# Altium footprint library Connector.PcbLib: 97 footprints (part 6 of 7)
Each footprint in its own frame and in the unit in brackets; x right, y up, seen from the top. Pads: shape width x height; smd on the part's side, far side on the other; paste and mask are expansions set on the pad; w line width, h text height; cw(c..) or ccw(c..) is an arc to the next point about the centre after c.
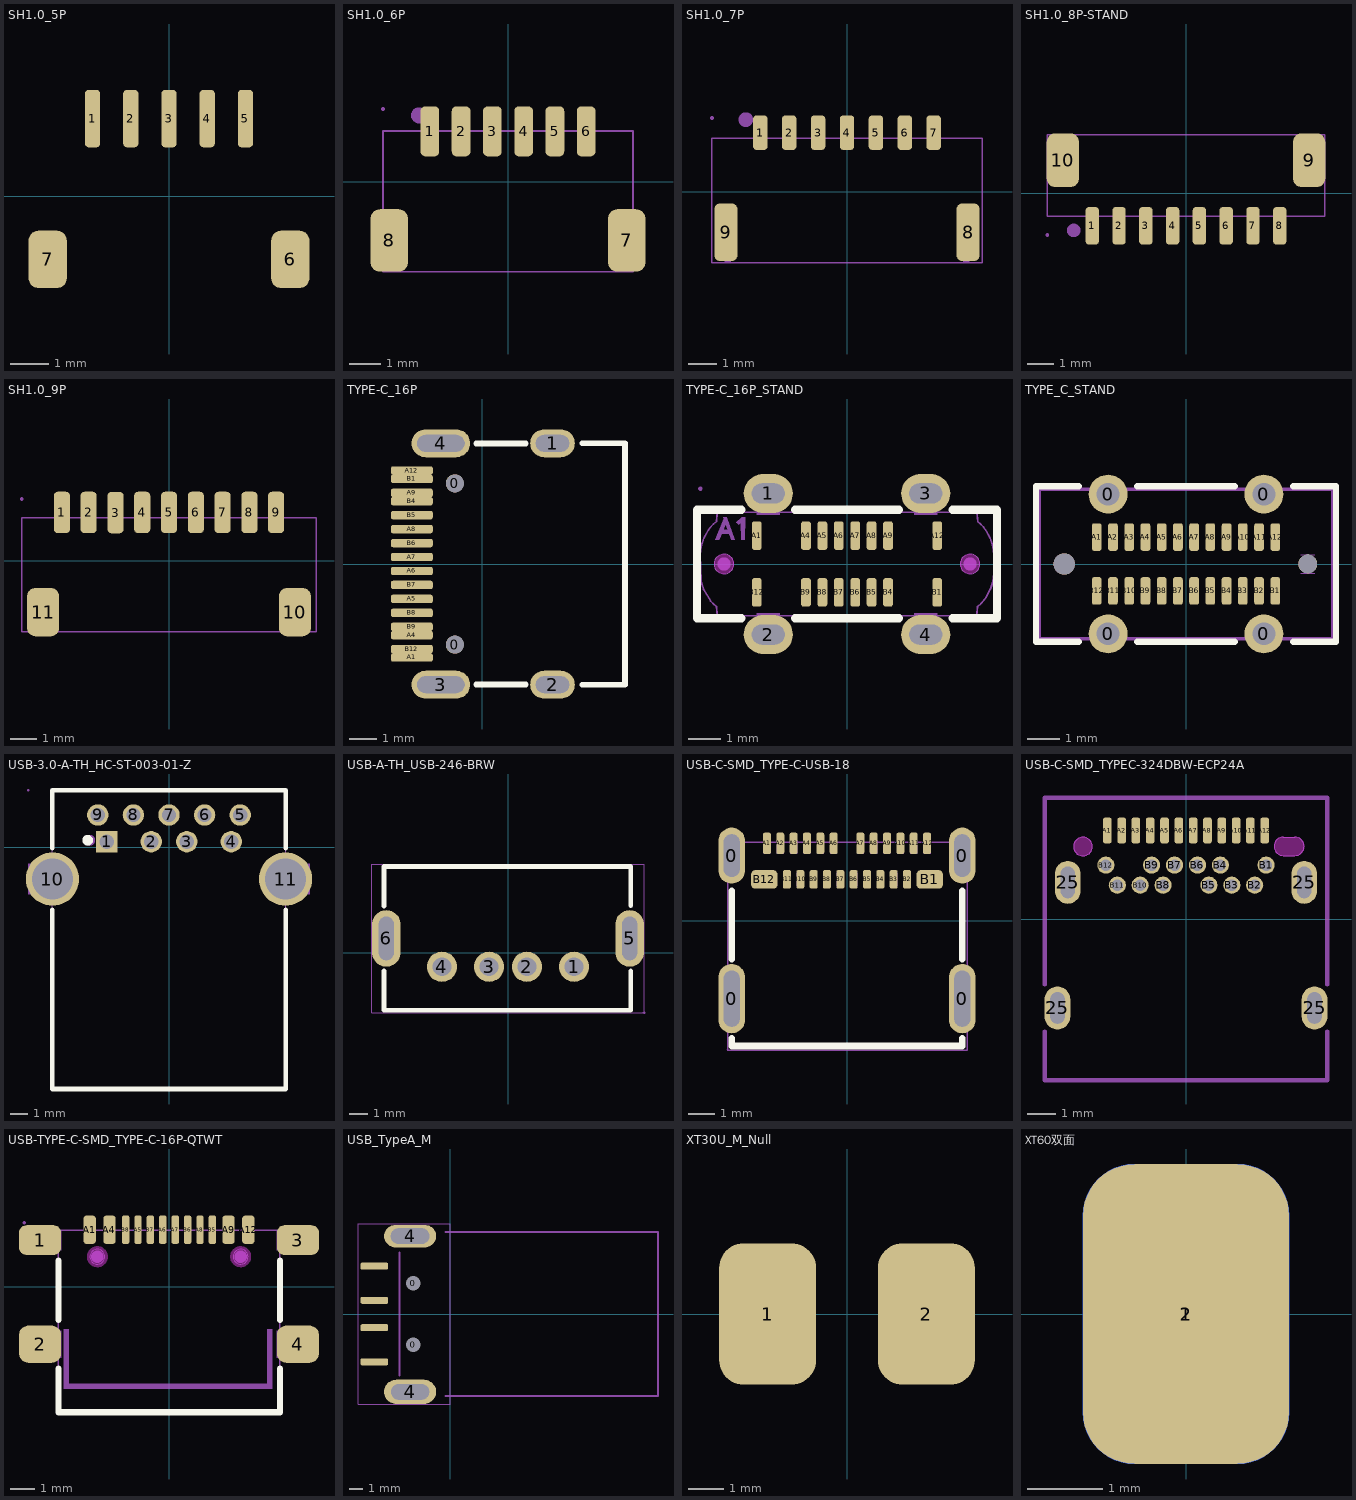
[diagram p5: the footprints below, top view; thin cyan lines are the x and y axes]

## SH1.0_5P [mm] "SH1.0_5P"
pads (7):
  rrect50% 0.4x1.5 smd: 1(-2,2.032) 2(-1,2.032) 3(0,2.032) 4(1,2.032) 5(2,2.032)
  rrect50% 1x1.5 smd: 6(3.175,-1.651) 7(-3.175,-1.651)
3D body "SM5B-SRSS-TB.step": height 2.9, standoff -0.05, extent -3.532,-2.345 3.468,2.605

## SH1.0_6P [mm] "SH1.0_6P"
pads (8):
  rrect50% 0.6x1.6 smd mask+0.05: 1(-2.5,1.619) 2(-1.5,1.619) 3(-0.5,1.619) 4(0.5,1.619) 5(1.5,1.619) 6(2.5,1.619)
  rrect50% 1.2x2 smd mask+0.05: 7(3.8,-1.873) 8(-3.8,-1.873)
Mechanical 6:
  circle w0.254: c-2.847,2.128 r0.127
Mechanical 15:
  region: 3.7,-1.25 3.9,-1.25 3.9,-2.75 3.7,-2.75
  region: -3.9,-1.25 -3.7,-1.25 -3.7,-2.75 -3.9,-2.75
  region: -2.6,2.33 -2.4,2.33 -2.4,1.33 -2.6,1.33
  region: -1.6,2.33 -1.4,2.33 -1.4,1.33 -1.6,1.33
  region: -0.6,2.33 -0.4,2.33 -0.4,1.33 -0.6,1.33
  region: 0.4,2.33 0.6,2.33 0.6,1.33 0.4,1.33
  region: 1.4,2.33 1.6,2.33 1.6,1.33 1.4,1.33
  region: 2.4,2.33 2.6,2.33 2.6,1.33 2.4,1.33
  region: -3.94,2.33 -3.94,2.355 -3.975,2.39 -4.025,2.39 -4.06,2.355 -4.06,2.33 -4.06,2.305 -4.025,2.27 -3.975,2.27 -3.94,2.305 -3.94,2.33
  lines w0.051: -4,-2.87 4,-2.87 4,1.63 -4,1.63 -4,-2.87
3D body "SM6B-SRSS-TB.step": height 2.9, standoff -0.05, extent -4,-2.918 4,2.032

## SH1.0_7P [mm] "SH1.0_7P"
pads (9):
  rrect50% 0.5x1.2 smd mask+0.05: 1(-3,2.05) 2(-2,2.05) 3(-1,2.05) 4(0,2.05) 5(1,2.05) 6(2,2.05) 7(3,2.05)
  rrect50% 0.8x2 smd mask+0.05: 8(4.191,-1.397) 9(-4.191,-1.397)
Mechanical 6:
  circle w0.254: c-3.5,2.5 r0.127
Mechanical 15:
  region: -4.615,2.55 -4.615,2.575 -4.65,2.61 -4.7,2.61 -4.735,2.575 -4.735,2.55 -4.735,2.525 -4.7,2.49 -4.65,2.49 -4.615,2.525 -4.615,2.55
  region: 2.9,2.55 3.1,2.55 3.1,1.65 2.9,1.65
  region: 1.9,2.55 2.1,2.55 2.1,1.65 1.9,1.65
  region: 0.9,2.55 1.1,2.55 1.1,1.65 0.9,1.65
  region: -0.1,2.55 0.1,2.55 0.1,1.65 -0.1,1.65
  region: -1.1,2.55 -0.9,2.55 -0.9,1.65 -1.1,1.65
  region: -2.1,2.55 -1.9,2.55 -1.9,1.65 -2.1,1.65
  region: -3.1,2.55 -2.9,2.55 -2.9,1.65 -3.1,1.65
  region: 4.025,-1.25 4.225,-1.25 4.225,-2.45 4.025,-2.45
  region: -4.225,-1.25 -4.025,-1.25 -4.025,-2.45 -4.225,-2.45
  lines w0.051: -4.675,-2.45 -4.675,1.85 4.675,1.85 4.675,-2.45 -4.675,-2.45
3D body "SM7B-SRSS-TB.step": height 2.9, standoff -0.05, extent -4.5,-2.4 4.5,2.55

## SH1.0_8P-STAND [mm]
pads (10):
  rrect50% 0.5x1.4 smd paste+0 mask+0.05: 1(-3.5,-1.225) 2(-2.5,-1.225) 3(-1.5,-1.225) 4(-0.5,-1.225) 5(0.5,-1.225) 6(1.5,-1.225) 7(2.5,-1.225) 8(3.5,-1.225)
  rrect50% 1.2x2 smd paste+0 mask+0.05: 9(4.6,1.225) 10(-4.6,1.225)
Mechanical 6:
  circle w0.254: c-4.191,-1.397 r0.127
Mechanical 15:
  region: -5.115,-1.565 -5.115,-1.54 -5.15,-1.505 -5.2,-1.505 -5.235,-1.54 -5.235,-1.565 -5.235,-1.59 -5.2,-1.625 -5.15,-1.625 -5.115,-1.59 -5.115,-1.565
  region: 0.4,-0.765 0.6,-0.765 0.6,-1.565 0.4,-1.565
  region: 1.4,-0.765 1.6,-0.765 1.6,-1.565 1.4,-1.565
  region: 3.4,-0.765 3.6,-0.765 3.6,-1.565 3.4,-1.565
  region: 2.4,-0.765 2.6,-0.765 2.6,-1.565 2.4,-1.565
  region: -1.6,-0.765 -1.4,-0.765 -1.4,-1.565 -1.6,-1.565
  region: -0.6,-0.765 -0.4,-0.765 -0.4,-1.565 -0.6,-1.565
  region: -2.6,-0.765 -2.4,-0.765 -2.4,-1.565 -2.6,-1.565
  region: -3.6,-0.765 -3.4,-0.765 -3.4,-1.565 -3.6,-1.565
  region: -4.7,1.875 -4.5,1.875 -4.5,0.575 -4.7,0.575
  region: 4.5,1.875 4.7,1.875 4.7,0.575 4.5,0.575
  lines w0.051: -5.175,-0.875 -5.175,2.175 5.175,2.175 5.175,-0.875 -5.175,-0.875

## SH1.0_9P [mm] "SH1.0_9P"
pads (11):
  rrect50% 0.6x1.55 smd mask+0.051: 1(-4,1.797) 2(-3,1.797) 3(-1.997,1.795) 4(-0.999,1.797) 5(0,1.797) 6(1.001,1.797) 7(2,1.797) 8(3,1.797) 9(4,1.797)
  rrect50% 1.2x1.8 smd mask+0.051: 10(4.7,-1.924) 11(-4.7,-1.924)
Mechanical 15:
  region: -4.977,-1.224 -4.677,-1.224 -4.677,-2.624 -4.977,-2.624
  region: 4.677,-1.224 4.977,-1.224 4.977,-2.624 4.677,-2.624
  region: -3.9,1.549 -4.1,1.549 -4.1,2.299 -3.9,2.299
  region: -2.9,1.549 -3.1,1.549 -3.1,2.299 -2.9,2.299
  region: -1.897,1.547 -2.097,1.547 -2.097,2.297 -1.897,2.297
  region: -0.899,1.549 -1.099,1.549 -1.099,2.299 -0.899,2.299
  region: 0.1,1.549 -0.1,1.549 -0.1,2.299 0.1,2.299
  region: 1.101,1.549 0.901,1.549 0.901,2.299 1.101,2.299
  region: 2.1,1.549 1.9,1.549 1.9,2.299 2.1,2.299
  region: 3.1,1.549 2.9,1.549 2.9,2.299 3.1,2.299
  region: 4.1,1.549 3.9,1.549 3.9,2.299 4.1,2.299
  region: -5.44,2.299 -5.44,2.324 -5.475,2.359 -5.525,2.359 -5.56,2.324 -5.56,2.299 -5.56,2.275 -5.525,2.239 -5.475,2.239 -5.44,2.275 -5.44,2.299
  lines w0.051: -5.5,-2.649 5.5,-2.649 5.5,1.601 -5.5,1.601 -5.5,-2.649
3D body "SM9B-SRSS-TB.step": height 2.9, standoff -0.05, extent -5.5,-2.701 5.5,2.249

## TYPE-C_16P [mm] "TYPE-C_16P"
pads (22):
  round 0.65 hole 0.65: 0(-0.98,-2.89) 0(-0.98,2.89)
  oval 1.6x1 hole 0.6 slot 1.2 at 0 deg: 1(2.52,4.325) 2(2.52,-4.325)
  oval 2.1x1 hole 0.6 slot 1.7 at 0 deg: 3(-1.48,-4.325) 4(-1.48,4.325)
  rrect50% 1.5x0.3 smd: A1(-2.52,-3.35) A4(-2.52,-2.55) A5(-2.52,-1.25) A6(-2.52,-0.25) A7(-2.52,0.25) A8(-2.52,1.25) A9(-2.52,2.55) A12(-2.52,3.35) B1(-2.52,3.05) B4(-2.52,2.25) B5(-2.52,1.75) B6(-2.52,0.75) B7(-2.52,-0.75) B8(-2.52,-1.75) B9(-2.52,-2.25) B12(-2.52,-3.05)
Top Overlay:
  lines w0.203: -0.218,-4.318 1.56,-4.318 ; -0.218,4.318 1.56,4.318 ; 3.592,-4.325 5.12,-4.325 5.12,4.325 3.592,4.325
3D body "1.step": height 3.26, standoff -1, extent -2.568,-4.475 5.182,4.475

## TYPE-C_16P_STAND [mm]
pads (20):
  oval 1.5x1.2 hole 0.61 slot 1 at 0 deg: 1(-2.4,2.15) 2(-2.4,-2.15) 3(2.4,2.15) 4(2.4,-2.15)
  rrect50% 0.3x0.87 smd paste-100 mask+0.051: A1(-2.75,0.865) A4(-1.25,0.865) A5(-0.75,0.865) A6(-0.25,0.865) A7(0.25,0.865) A8(0.75,0.865) A9(1.25,0.865) A12(2.75,0.865) B1(2.75,-0.865) B4(1.25,-0.865) B5(0.75,-0.865) B6(0.25,-0.865) B7(-0.25,-0.865) B8(-0.75,-0.865) B9(-1.25,-0.865) B12(-2.75,-0.865)
Top Overlay:
  lines w0.254: -4.572,1.397 -4.572,1.651 -3.214,1.651 ; -4.572,1.524 -4.572,-1.651 -3.214,-1.651 ; -1.586,-1.651 1.586,-1.651 ; -1.586,1.651 1.586,1.651 ; 3.214,-1.651 4.572,-1.651 4.572,1.524 4.572,1.651 3.214,1.651
Top Paste:
  drawing of 20 lines, arcs and shapes, not listed
Keep-Out Layer:
  board cut-out: -3.45,0 -3.45,0.06 -3.496,0.17 -3.58,0.254 -3.69,0.3 -3.81,0.3 -3.92,0.254 -4.004,0.17 -4.05,0.06 -4.05,0 -4.05,-0.06 -4.004,-0.17 -3.92,-0.254 -3.81,-0.3 -3.69,-0.3 -3.58,-0.254 -3.496,-0.17 -3.45,-0.06 -3.45,0
  board cut-out: 4.05,0 4.05,0.06 4.004,0.17 3.92,0.254 3.81,0.3 3.69,0.3 3.58,0.254 3.496,0.17 3.45,0.06 3.45,0 3.45,-0.06 3.496,-0.17 3.58,-0.254 3.69,-0.3 3.81,-0.3 3.92,-0.254 4.004,-0.17 4.05,-0.06 4.05,0
Mechanical 1:
  circle w0.005: c-3.75,0 r0.3
  circle w0.005: c3.75,0 r0.3
Mechanical 6:
  circle w0.2: c-3.75,0 r0.1
  circle w0.2: c3.75,0 r0.1
  region: -3.304,1.196 -3.365,1.257 -3.366,1.258 -3.368,1.261 -3.369,1.264 -3.37,1.267 -3.37,1.269 -3.201,1.423 -3.108,1.421 -3.119,0.743 -3.23,0.741 -3.234,1.26
  region: -3.532,0.733 -3.419,0.734 -3.669,1.42 -3.777,1.419 -3.775,1.419
  region: -3.702,1.205 -3.889,0.735 -4.013,0.737 -3.763,1.382
  region: -3.759,1.05 -3.646,1.049 -3.599,0.917 -3.811,0.921
Mechanical 15:
  drawing of 57 lines, arcs and shapes, not listed

## TYPE_C_STAND [mm] "立贴Type-C_24P"
height 4.3
pads (30):
  round 1.2 hole 0.7: 0(-2.4,-2.15) 0(-2.4,2.15) 0(2.4,-2.15) 0(2.4,2.15)
  rrect50% 0.3x0.85 smd: A1(-2.75,0.83) A2(-2.25,0.83) A3(-1.75,0.83) A4(-1.25,0.83) A5(-0.75,0.83) A6(-0.25,0.83) A7(0.25,0.83) A8(0.75,0.83) A9(1.25,0.83) A10(1.75,0.83) A11(2.25,0.83) A12(2.75,0.83) B1(2.75,-0.83) B2(2.25,-0.83) B3(1.75,-0.83) B4(1.25,-0.83) B5(0.75,-0.83) B6(0.25,-0.83) B7(-0.25,-0.83) B8(-0.75,-0.83) B9(-1.25,-0.83) B10(-1.75,-0.83) B11(-2.25,-0.83) B12(-2.75,-0.83)
  round 0.66 hole 0.66 unplated: ""(-3.75,0)
  round 0.58 hole 0.58 unplated: ""(3.75,0)
Top Overlay:
  lines w0.2: -3.3,-2.4 -4.62,-2.4 -4.62,2.4 -3.3,2.4 ; -1.5,-2.4 1.5,-2.4 ; -1.5,2.4 1.5,2.4 ; 3.3,-2.4 4.62,-2.4 4.62,2.4 3.3,2.4
Mechanical 1:
  lines w0.01: 3.54,-0.29 3.96,-0.29 ; 3.54,0.29 3.96,0.29
Mechanical 13:
  lines w0.1: -4.52,-2.3 -4.52,2.3 4.52,2.3 4.52,-2.3 -4.52,-2.3
3D body "632722110112_1.step": height 7.39, standoff -1.32, extent -4.52,-2.3 4.52,2.3

## USB-3.0-A-TH_HC-ST-003-01-Z [mm]
pads (11):
  rect 1.2x1.2 hole 0.8 paste-2539.97 mask+0.05: 1(-3.5,0.3)
  round 1.2 hole 0.8 paste-2539.97 mask+0.05: 2(-1,0.3) 3(1,0.3) 4(3.5,0.3) 5(4,1.8) 6(2,1.8) 7(0,1.8) 8(-2,1.8) 9(-4,1.8)
  round 3 hole 2.3 paste-2539.97 mask+0.05: 10(-6.55,-1.8) 11(6.55,-1.8)
Top Overlay:
  circle w0.3: c-4.572,0.381 r0.15
  lines w0.254: -6.55,-3.531 -6.55,-13.6 6.55,-13.6 6.55,-3.531 ; -6.55,-0.069 -6.55,3.2 6.55,3.2 6.55,-0.069
Mechanical 2:
  circle w0.3: c-4.445,0.381 r0.15
Mechanical 6:
  lines w0.051: -6.55,-13.6 -6.55,3.2 6.55,3.2 6.55,-13.6 -6.55,-13.6
Mechanical 7:
  region: 6.5,-2.65 6.5,-0.95 7.904,-0.95 7.904,-2.65
  region: -6.5,-0.95 -6.5,-2.65 -7.904,-2.65 -7.904,-0.95
Mechanical 8:
  region: -7.844,3.2 -7.844,3.175 -7.879,3.14 -7.929,3.14 -7.964,3.175 -7.964,3.2 -7.964,3.225 -7.929,3.26 -7.879,3.26 -7.844,3.225 -7.844,3.2
Mechanical 9:
  region: -3.7,0.45 -3.3,0.45 -3.3,0.15 -3.7,0.15
  region: -1.2,0.45 -0.8,0.45 -0.8,0.15 -1.2,0.15
  region: 0.8,0.45 1.2,0.45 1.2,0.15 0.8,0.15
  region: 3.3,0.45 3.7,0.45 3.7,0.15 3.3,0.15
  region: 3.8,1.95 4.2,1.95 4.2,1.65 3.8,1.65
  region: 1.8,1.95 2.2,1.95 2.2,1.65 1.8,1.65
  region: -0.2,1.95 0.2,1.95 0.2,1.65 -0.2,1.65
  region: -2.2,1.95 -1.8,1.95 -1.8,1.65 -2.2,1.65
  region: -4.2,1.95 -3.8,1.95 -3.8,1.65 -4.2,1.65
  region: 6.4,-2.65 6.4,-0.95 6.7,-0.95 6.7,-2.65
  region: -6.7,-2.65 -6.7,-0.95 -6.4,-0.95 -6.4,-2.65

## USB-A-TH_USB-246-BRW [mm]
pads (6):
  round 1.6 hole 1 paste-2539.97 mask+0.051: 1(3.5,-0.75) 2(1,-0.75) 3(-1,-0.75) 4(-3.5,-0.75)
  oval 1.524x3 hole 0.8 slot 2.3 at 90 deg paste-2539.97 mask+0.051: 5(6.45,0.75) 6(-6.45,0.75)
Top Overlay:
  lines w0.254: -6.577,-0.973 -6.577,-3.06 6.504,-3.06 6.504,-0.98 ; -6.577,2.473 -6.577,4.56 6.504,4.56 6.504,2.48
Mechanical 15:
  region: -3.1,-0.75 -3.1,-0.67 -3.161,-0.523 -3.273,-0.411 -3.42,-0.35 -3.579,-0.35 -3.726,-0.411 -3.839,-0.523 -3.9,-0.67 -3.9,-0.75 -3.9,-0.829 -3.839,-0.976 -3.726,-1.089 -3.579,-1.15 -3.42,-1.15 -3.273,-1.089 -3.161,-0.976 -3.1,-0.829 -3.1,-0.75
  region: -0.6,-0.75 -0.6,-0.67 -0.661,-0.523 -0.773,-0.411 -0.92,-0.35 -1.08,-0.35 -1.227,-0.411 -1.339,-0.523 -1.4,-0.67 -1.4,-0.75 -1.4,-0.829 -1.339,-0.976 -1.227,-1.089 -1.08,-1.15 -0.92,-1.15 -0.773,-1.089 -0.661,-0.976 -0.6,-0.829 -0.6,-0.75
  region: 1.4,-0.75 1.4,-0.67 1.339,-0.523 1.227,-0.411 1.08,-0.35 0.92,-0.35 0.773,-0.411 0.661,-0.523 0.6,-0.67 0.6,-0.75 0.6,-0.829 0.661,-0.976 0.773,-1.089 0.92,-1.15 1.08,-1.15 1.227,-1.089 1.339,-0.976 1.4,-0.829 1.4,-0.75
  region: 3.9,-0.75 3.9,-0.67 3.839,-0.523 3.727,-0.411 3.58,-0.35 3.421,-0.35 3.274,-0.411 3.161,-0.523 3.1,-0.67 3.1,-0.75 3.1,-0.829 3.161,-0.976 3.274,-1.089 3.421,-1.15 3.58,-1.15 3.727,-1.089 3.839,-0.976 3.9,-0.829 3.9,-0.75
  region: 7.272,-3.187 7.272,-3.162 7.237,-3.127 7.187,-3.127 7.152,-3.162 7.152,-3.187 7.152,-3.212 7.187,-3.247 7.237,-3.247 7.272,-3.212 7.272,-3.187
  region: -6.13,1.5 -6.13,0 -6.77,0 -6.77,1.5
  region: 6.77,1.5 6.77,0 6.13,0 6.13,1.5
  lines w0.051: -7.212,-3.187 7.212,-3.187 7.212,4.687 -7.212,4.687 -7.212,-3.187

## USB-C-SMD_TYPE-C-USB-18 [mm]
pads (28):
  oval 1x2.6 hole 0.6 slot 2.1 at 90 deg mask+0.05: 0(-4.32,-2.91) 0(4.32,-2.91)
  oval 1x2.1 hole 0.6 slot 1.6 at 90 deg mask+0.05: 0(-4.32,2.45) 0(4.32,2.45)
  rrect50% 0.3x0.8 smd mask+0.051: A1(-3,2.91) A2(-2.5,2.91) A3(-2,2.91) A4(-1.5,2.91) A5(-1,2.91) A6(-0.5,2.91) A7(0.5,2.91) A8(1,2.91) A9(1.5,2.91) A10(2,2.91) A11(2.5,2.91) A12(3,2.91)
  rrect50% 1x0.7 smd mask+0.05: B1(3.1,1.56) B12(-3.1,1.56)
  rrect50% 0.3x0.7 smd mask+0.051: B2(2.25,1.56) B3(1.75,1.56) B4(1.25,1.56) B5(0.75,1.56) B6(0.25,1.56) B7(-0.25,1.56) B8(-0.75,1.56) B9(-1.25,1.56) B10(-1.75,1.56) B11(-2.25,1.56)
Top Overlay:
  lines w0.254: -4.32,-4.391 -4.32,-4.68 4.32,-4.68 4.32,-4.391 ; -4.32,-1.429 -4.32,1.119 ; 4.32,-1.429 4.32,1.119
Top Paste:
  drawing of 28 lines, arcs and shapes, not listed
Mechanical 15:
  drawing of 36 lines, arcs and shapes, not listed
3D body "1.step": height 3.26, standoff -1, extent -4.475,-4.572 4.475,3.178

## USB-C-SMD_TYPEC-324DBW-ECP24A [mm]
pads (28):
  oval 0.9x1.5 hole 0.5 slot 1.1 at 90 deg paste-2539.97 mask+0: 25(-4.49,-3.1) 25(-4.13,1.29) 25(4.13,1.29) 25(4.49,-3.1)
  rrect50% 0.3x0.9 smd paste+0.051 mask+0: A1(-2.75,3.1) A2(-2.25,3.1) A3(-1.75,3.1) A4(-1.25,3.1) A5(-0.75,3.1) A6(-0.25,3.1) A7(0.25,3.1) A8(0.75,3.1) A9(1.25,3.1) A10(1.75,3.1) A11(2.25,3.1) A12(2.75,3.1)
  round 0.6 hole 0.4 paste-2539.97 mask+0: B1(2.8,1.89) B2(2.4,1.19) B3(1.6,1.19) B4(1.2,1.89) B5(0.8,1.19) B6(0.4,1.89) B7(-0.4,1.89) B8(-0.8,1.19) B9(-1.2,1.89) B10(-1.6,1.19) B11(-2.4,1.19) B12(-2.8,1.89)
Keep-Out Layer:
  circle w0.003: c-3.6,2.54 r0.325
  region: 3.404,2.872 3.804,2.872 3.868,2.872 3.987,2.822 4.078,2.731 4.127,2.612 4.127,2.483 4.078,2.364 3.987,2.272 3.868,2.223 3.804,2.222 3.404,2.222 3.339,2.223 3.221,2.272 3.13,2.364 3.081,2.483 3.081,2.612 3.13,2.731 3.221,2.822 3.339,2.872 3.404,2.872
  region: 3.404,2.872 3.804,2.872 3.868,2.872 3.987,2.822 4.078,2.731 4.127,2.612 4.127,2.483 4.078,2.364 3.987,2.272 3.868,2.223 3.804,2.222 3.404,2.222 3.339,2.223 3.221,2.272 3.13,2.364 3.081,2.483 3.081,2.612 3.13,2.731 3.221,2.822 3.339,2.872 3.404,2.872
  region: -3.275,2.54 -3.275,2.475 -3.324,2.356 -3.416,2.264 -3.535,2.215 -3.665,2.215 -3.784,2.264 -3.876,2.356 -3.925,2.475 -3.925,2.54 -3.925,2.605 -3.876,2.724 -3.784,2.816 -3.665,2.865 -3.535,2.865 -3.416,2.816 -3.324,2.724 -3.275,2.605 -3.275,2.54
  region: -3.275,2.54 -3.275,2.475 -3.324,2.356 -3.416,2.264 -3.535,2.215 -3.665,2.215 -3.784,2.264 -3.876,2.356 -3.925,2.475 -3.925,2.54 -3.925,2.605 -3.876,2.724 -3.784,2.816 -3.665,2.865 -3.535,2.865 -3.416,2.816 -3.324,2.724 -3.275,2.605 -3.275,2.54
  lines w0.003: 3.404,2.222 cw(c3.406,2.547) 3.404,2.872 3.804,2.872 cw(c3.802,2.547) 3.804,2.222 3.404,2.222
Mechanical 1:
  circle w0.003: c-3.6,2.54 r0.325
  lines w0.003: 3.404,2.222 cw(c3.406,2.547) 3.404,2.872 3.804,2.872 cw(c3.802,2.547) 3.804,2.222 3.404,2.222
Mechanical 6:
  lines w0.152: -4.93,-3.919 -4.93,-5.63 4.93,-5.63 4.93,-3.919 ; -4.93,-2.281 -4.93,4.25 4.93,4.25 4.93,-2.281

## USB-TYPE-C-SMD_TYPE-C-16P-QTWT [mm]
pads (16):
  rrect50% 1.7x1.2 smd: 1(-5.2,1.891) 3(5.2,1.891)
  rrect50% 1.7x1.5 smd: 2(-5.2,-2.309) 4(5.2,-2.309)
  rrect50% 0.5x1.14 smd: A1(-3.2,2.308) A4(-2.4,2.308) A9(2.4,2.308) A12(3.2,2.308)
  rrect50% 0.3x1.14 smd: A5(-1.25,2.308) A6(-0.25,2.308) A7(0.25,2.308) A8(1.25,2.309) B5(1.75,2.308) B6(0.75,2.308) B7(-0.75,2.308) B8(-1.75,2.309)
Top Overlay:
  lines w0.254: -4.46,-3.29 -4.46,-5.049 4.48,-5.049 4.48,-3.29 ; -4.46,-1.328 -4.46,1.06 ; 4.48,-1.328 4.48,1.061
Keep-Out Layer:
  board cut-out: -2.59,1.221 -2.591,1.28 -2.637,1.389 -2.721,1.472 -2.831,1.517 -2.949,1.517 -3.058,1.472 -3.143,1.389 -3.189,1.28 -3.19,1.221 -3.189,1.162 -3.143,1.053 -3.058,0.97 -2.949,0.925 -2.831,0.925 -2.721,0.97 -2.637,1.053 -2.591,1.162 -2.59,1.221
  board cut-out: 3.19,1.221 3.189,1.28 3.143,1.389 3.058,1.472 2.949,1.517 2.831,1.517 2.722,1.472 2.637,1.389 2.591,1.28 2.59,1.221 2.591,1.162 2.637,1.053 2.722,0.97 2.831,0.925 2.949,0.925 3.059,0.97 3.143,1.053 3.189,1.162 3.19,1.221
Mechanical 1:
  circle w0.025: c-2.89,1.221 r0.3
  circle w0.025: c2.89,1.221 r0.3
Mechanical 6:
  circle w0.25: c-2.89,1.221 r0.125
  circle w0.25: c2.89,1.221 r0.125
  region: -4.24,-1.699 -4.24,-4.099 -4.04,-4.099 -4.04,-1.699
  region: 4.16,-1.699 4.16,-4.099 3.96,-4.099 3.96,-1.699
  region: 3.96,-4.099 -4.04,-4.099 -4.04,-3.899 3.96,-3.899
Mechanical 15:
  region: -5.84,-1.759 -4.34,-1.759 -4.34,-2.859 -5.84,-2.859
  region: 4.34,-1.759 5.84,-1.759 5.84,-2.859 4.34,-2.859
  region: -5.84,2.291 -4.34,2.291 -4.34,1.491 -5.84,1.491
  region: 4.34,2.291 5.84,2.291 5.84,1.491 4.34,1.491
  region: 3,2.591 3.4,2.591 3.4,1.991 3,1.991
  region: 2.2,2.591 2.6,2.591 2.6,1.991 2.2,1.991
  region: -3.4,2.591 -3,2.591 -3,1.991 -3.4,1.991
  region: -2.6,2.591 -2.2,2.591 -2.2,1.991 -2.6,1.991
  region: 1.65,2.591 1.85,2.591 1.85,1.991 1.65,1.991
  region: 1.15,2.591 1.35,2.591 1.35,1.991 1.15,1.991
  region: 0.65,2.591 0.85,2.591 0.85,1.991 0.65,1.991
  region: 0.15,2.591 0.35,2.591 0.35,1.991 0.15,1.991
  region: -0.35,2.591 -0.15,2.591 -0.15,1.991 -0.35,1.991
  region: -0.85,2.591 -0.65,2.591 -0.65,1.991 -0.85,1.991
  region: -1.35,2.591 -1.15,2.591 -1.15,1.991 -1.35,1.991
  region: -1.85,2.591 -1.65,2.591 -1.65,1.991 -1.85,1.991
  region: -5.78,2.591 -5.78,2.616 -5.815,2.651 -5.865,2.651 -5.9,2.616 -5.9,2.591 -5.9,2.566 -5.865,2.531 -5.815,2.531 -5.78,2.566 -5.78,2.591
  lines w0.051: -4.47,-5.059 -4.47,2.291 4.47,2.291 4.47,-5.059 -4.47,-5.059
Multi-Layer keep-out:
  circle w0.254: c-2.89,1.221 r0.3
  circle w0.254: c2.89,1.221 r0.3

## USB_TypeA_M [mil] "公头USB_TypeA"
height 177.17
pads (8):
  round 32 hole 42: 0(-106.3,-88.58) 0(-106.3,88.58)
  rrect50% 80x20 smd: 1(-218,137.8) 2(-218,39.37) 3(-218,-39.37) 4(-218,-137.8)
  oval 150x70 hole 45 slot 110 at 0 deg: 4(-115,-224)
  oval 150x65 hole 45 slot 111 at 0 deg: 4(-115,224)
Mechanical 13:
  lines w6: -145.67,-176.18 -145.67,176.18 ; -12.99,-236.22 598.43,-236.22 598.43,236.22 -12.99,236.22
Mechanical 14:
  lines w2: -265,-260 0,-260 0,260 -265,260 -265,-260
3D body "SW3dPS-USB-Male Port.STEP": height 70, standoff -117.5, extent -145.67,-236.37 576.08,236.37

## XT30U_M_Null [mm] "XT30焊盘_不包含3D"
pads (2):
  rrect50% 2.75x4 smd mask+0.102: 1(-2.25,0) 2(2.25,0)

## XT60双面 [mm] "XT60双面"
pads (2):
  rrect50% 2.75x4 smd far side mask+0.102: 1(0,0)
  rrect50% 2.75x4 smd mask+0.102: 2(0,0)